# Altium footprint library SMA_VERTICAL.PcbLib: 1 footprints
Each footprint in its own frame and in the unit in brackets; x right, y up, seen from the top. Pads: shape width x height; smd on the part's side, far side on the other; paste and mask are expansions set on the pad; w line width, h text height; cw(c..) or ccw(c..) is an arc to the next point about the centre after c.
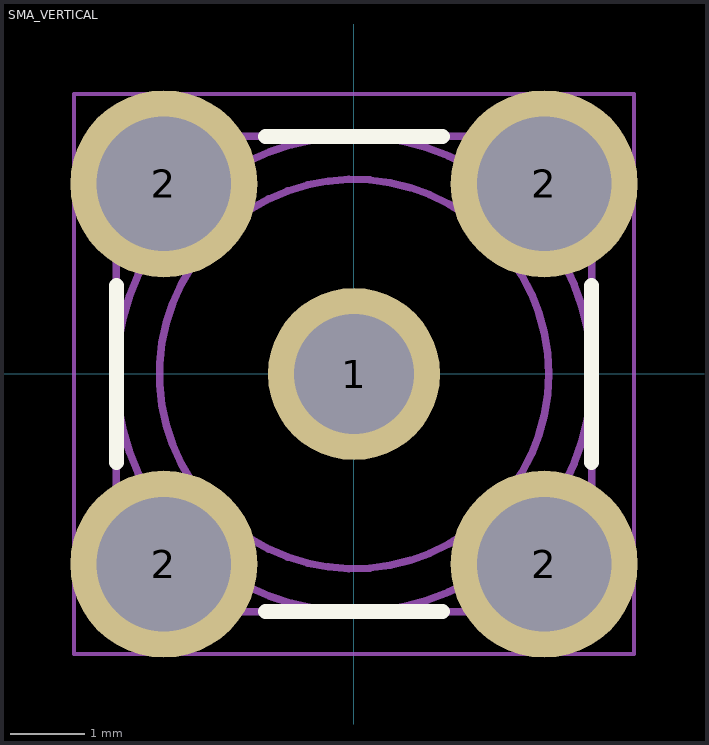
[diagram p0: the footprint, top view; thin cyan lines are the x and y axes]

## SMA_VERTICAL [mm]
pads (5):
  round 2.3 hole 1.6: 1(0,0)
  round 2.5 hole 1.8: 2(-2.54,-2.54) 2(-2.54,2.54) 2(2.54,-2.54) 2(2.54,2.54)
Top Overlay:
  lines w0.2: -3.175,-1.181 -3.175,1.181 ; -1.181,-3.175 1.181,-3.175 ; -1.181,3.175 1.181,3.175 ; 3.175,-1.181 3.175,1.181
Mechanical 13:
  circle w0.1: c0,0 r0.635
  circle w0.1: c0,0 r2.6
  circle w0.1: c0,0 r3.175
  lines w0.1: -3.19,-2.808 ccw(c0,0) -2.808,-3.191 ; -3.19,2.808 cw(c0,0) -2.808,3.19 ; -3.175,-2.794 -3.175,2.794 ; -3.04,-2.97 -3.04,-2.04 -2.04,-2.04 -2.04,-3.04 -2.97,-3.04 ; -3.04,2.97 -3.04,2.04 -2.04,2.04 -2.04,3.04 -2.97,3.04 ; -2.794,-3.175 2.794,-3.175 ; -2.794,3.175 2.794,3.175 ; -0.1,-0.627 -0.1,0.627 ; 0.1,-0.627 0.1,0.627 ; 2.808,-3.191 ccw(c0,0) 3.191,-2.808 ; 2.808,3.19 cw(c0,0) 3.191,2.808 ; 2.97,3.04 2.04,3.04 2.04,2.04 3.04,2.04 3.04,2.97 ; 2.97,-3.04 2.04,-3.04 2.04,-2.04 3.04,-2.04 3.04,-2.97 ; 3.175,-2.794 3.175,2.794
Mechanical 15:
  lines w0.05: -3.74,-3.74 3.74,-3.74 3.74,3.74 -3.74,3.74 -3.74,-3.74
  lines w0.1: -0.635,0 0.635,0 ; 0,-0.635 0,0.635
3D body "32k101-400l5.stp": height 9.5, standoff -4, extent -3.175,-3.175 3.175,3.175